# EAGLE library part ATF16V8B-15PU (library rcbussbc)
Microchip Technology ATF16V8B-15PU, SPLD Simple Programmable Logic Device ATF16V8B 150 Gates, 8 Macro Cells, 8 I/O, Source: Datasheet <http://ww1.microchip.com/downloads/en/devicedoc/atmel-0364-pld-atf16v8b-8bq-8bql-datasheet.pdf>
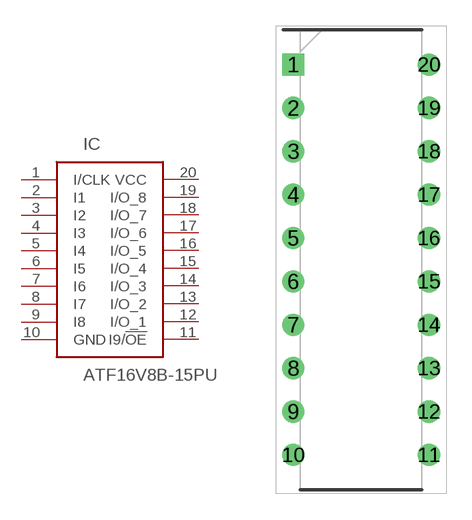
[diagram p8: symbol with the pads of DIP794W59P254L2591H533Q20N; footprint DIP794W59P254L2591H533Q20N]

Designator prefix IC

## ATF16V8B-15PU (ARROW_PART_NUMBER: ATF16V8B-15PU; ARROW_PRICE-STOCK: https://www.arrow.com/en/products/atf16v8b-15pu/microchip-technology; DESCRIPTION: Microchip Technology ATF16V8B-15PU, SPLD Simple Programmable Logic Device ATF16V8B 150 Gates, 8 Macro Cells, 8 I/O,; HEIGHT: 5.334mm; MANUFACTURER_NAME: Microchip; MANUFACTURER_PART_NUMBER: ATF16V8B-15PU; MOUSER_PART_NUMBER: 556-AF16V8B15PU; MOUSER_PRICE-STOCK: https://www.mouser.co.uk/ProductDetail/Microchip-Technology-Atmel/ATF16V8B-15PU?qs=2mdvTlUeTfCsdBIzx6v3gA%3D%3D)  [DIP794W59P254L2591H533Q20N]
1  I/CLK
2  I1
3  I2
4  I3
5  I4
6  I5
7  I6
8  I7
9  I8
10  GND
11  I9/!OE
12  I/O_1
13  I/O_2
14  I/O_3
15  I/O_4
16  I/O_5
17  I/O_6
18  I/O_7
19  I/O_8
20  VCC

## Footprint DIP794W59P254L2591H533Q20N (pad centres in mm)
20P3 20-lead PDIP
drill 0.788 pad 1.188 square: 1 -3.969,11.43
drill 0.788 pad 1.188: 2 -3.969,8.89; 3 -3.969,6.35; 4 -3.969,3.81; 5 -3.969,1.27; 6 -3.969,-1.27; 7 -3.969,-3.81; 8 -3.969,-6.35; 9 -3.969,-8.89; 10 -3.969,-11.43; 11 3.969,-11.43; 12 3.969,-8.89; 13 3.969,-6.35; 14 3.969,-3.81; 15 3.969,-1.27; 16 3.969,1.27; 17 3.969,3.81; 18 3.969,6.35; 19 3.969,8.89; 20 3.969,11.43